# Altium schematic symbol library 电荷泵.SchLib: 1 symbol
Pins are listed as number, name and electrical type; pins without a type are passive.

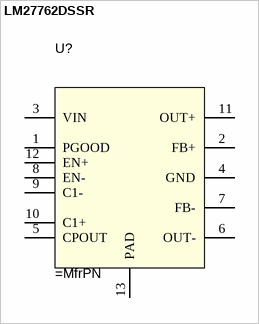
[diagram p0: symbol LM27762DSSR]

## LM27762DSSR
designator U?
ComponentLink1Description: Datasheet Link; ComponentLink1URL: https://sps06.itg.ti.com/sites/KMS/crossdivteams/altium/docs/ComponentDatasheets/LM27762_SNVSAF7_r0_Sep2015.pdf
pins: 1 PGOOD (oc), 2 FB+, 3 VIN (power), 4 GND (power), 5 CPOUT (power), 6 OUT- (power), 7 FB-, 8 EN-, 9 C1-, 10 C1+, 11 OUT+ (power), 12 EN+, 13 PAD (power)